# Altium schematic symbol library SC52-11EWA.SchLib: 1 symbol
Pins are listed as number, name and electrical type; pins without a type are passive.

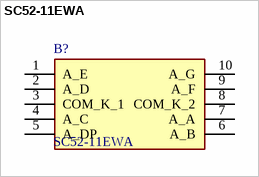
[diagram p0: symbol SC52-11EWA]

## SC52-11EWA
designator B?
Display Modules - LED Character and Numeric Red 7-Segment 1 Character Common Cathode 2V 20mA 0.689" H x 0.488" W x 0.276" D (17.50mm x 12.40mm x 7.00mm) 10-DIP (0.600", 15.24mm); Manufacturer_Name: Kingbright; Geometry.Height: 7.25mm; Farnell Part Number: *; Farnell Price/Stock: *; Manufacturer_Part_Number: SC52-11EWA; Datasheet Link: https://www.kingbrightusa.com/images/catalog/SPEC/SC52-11EWA.pdf
footprint SC5211EWA
pins: 1 A_E, 2 A_D, 3 COM_K_1, 4 A_C, 5 A_DP, 6 A_B, 7 A_A, 8 COM_K_2, 9 A_F, 10 A_G